# Altium footprint library RUT_xE310_PCB.PcbLib: 42 footprints (part 2 of 3)
Each footprint in its own frame and in the unit in brackets; x right, y up, seen from the top. Pads: shape width x height; smd on the part's side, far side on the other; paste and mask are expansions set on the pad; w line width, h text height; cw(c..) or ccw(c..) is an arc to the next point about the centre after c.
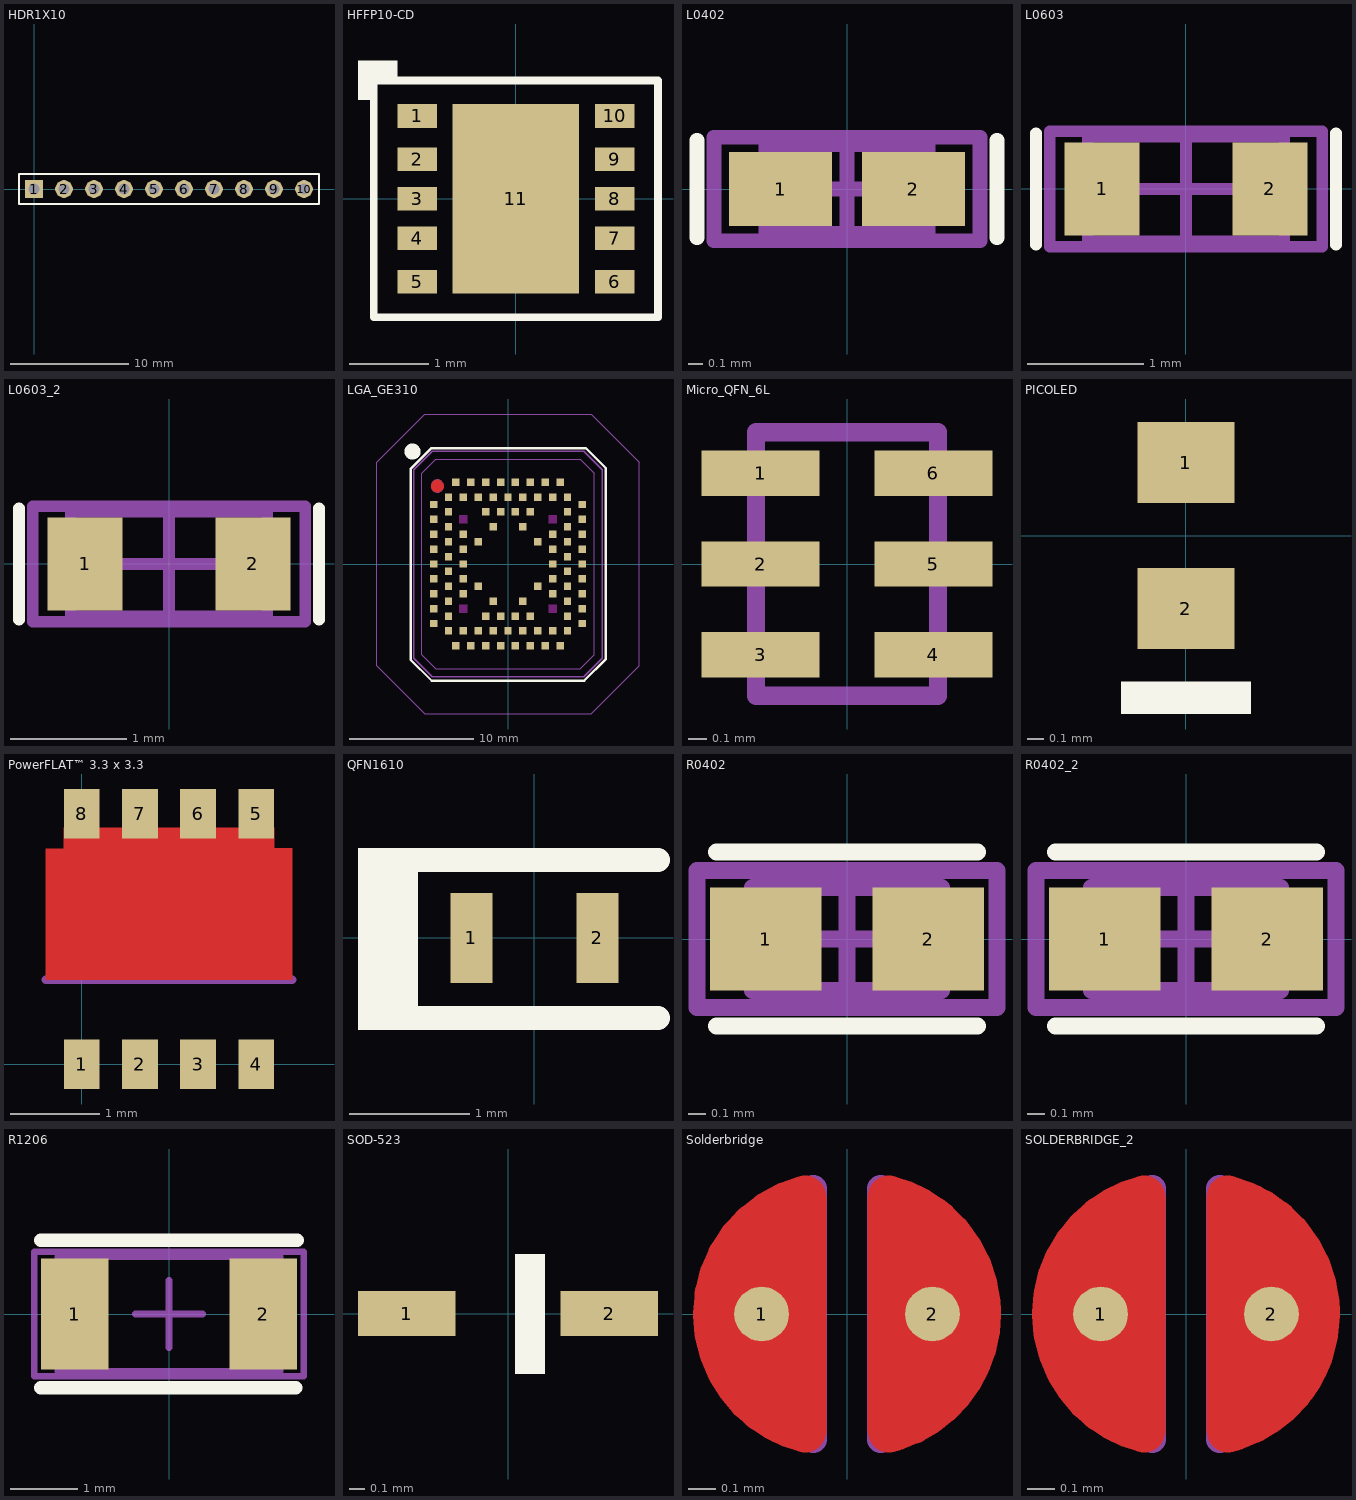
[diagram p1: the footprints below, top view; thin cyan lines are the x and y axes]

## HDR1X10 [mm] "Connector; Header; 10 Position"
pads (10):
  rect 1.5x1.5 hole 0.9: 1(0,0)
  round 1.5 hole 0.9: 2(2.54,0) 3(5.08,0) 4(7.62,0) 5(10.16,0) 6(12.7,0) 7(15.24,0) 8(17.78,0) 9(20.32,0) 10(22.86,0)
Top Overlay:
  lines w0.2: -1.27,-1.27 -1.27,1.27 0.635,1.27 24.13,1.27 24.13,-1.27 -1.27,-1.27
3D body "User Library-SIL_Socket10_.STEP": height 8.5, standoff -10.46, extent -1.27,-1.27 24.13,1.27

## HFFP10-CD [mm] "PACKAGE HFFP10-CD"
height 0.63
pads (11):
  rect 0.5x0.3 smd paste-1 mask+0.05: 1(-1.25,1.05) 2(-1.25,0.5) 3(-1.25,0) 4(-1.25,-0.5) 5(-1.25,-1.05) 6(1.25,-1.05) 7(1.25,-0.5) 8(1.25,0) 9(1.25,0.5) 10(1.25,1.05)
  rect 1.6x2.4 smd paste-1 mask+0.05: 11(0,0)
Top Overlay:
  rectangle: -1.8,1.5 -1.5,1.75
  rectangle: -2,1.25 -1.75,1.75
  lines w0.1: -1.8,-1.5 -1.8,1.5 1.8,1.5 1.8,-1.5 -1.8,-1.5
Top Paste:
  drawing of 18 lines, arcs and shapes, not listed
3D body: height 0.64, standoff 0.63, extent -0.975,0.725 -0.725,0.975
3D body: height 0.63, standoff 0.24, extent -1.2,-1.2 1.2,1.2
3D body: height 0.24, standoff 0, extent -1.25,-1.25 1.25,1.25

## L0402 [mm] "Chip Inductor, 2-Leads, Body 1,0x0,5mm, IPC High Density"
height 0.6
pads (2):
  rect 0.7x0.5 smd: 1(-0.45,0) 2(0.45,0)
Top Overlay:
  lines w0.1: -1.016,-0.33 -1.016,0.33 ; 1.016,-0.33 1.016,0.33
Mechanical 13:
  lines w0.1: -0.55,-0.3 0.55,-0.3 0.55,0.3 -0.55,0.3 -0.55,-0.3
Mechanical 15:
  lines w0.1: -0.3,0 0.3,0 ; 0,-0.3 0,0.3 ; -0.9,-0.35 0.9,-0.35 0.9,0.35 -0.9,0.35 -0.9,-0.35
3D body "inductor_0402.STEP": height 0.25, standoff 0, extent -0.49,-0.25 0.51,0.25

## L0603 [mm] "Chip Inductor, 2-Leads, Body 1,6x0,8mm, IPC High Density"
height 1
pads (2):
  rect 0.65x0.8 smd: 1(-0.725,0) 2(0.725,0)
Top Overlay:
  lines w0.1: -1.295,-0.483 -1.295,0.483 ; 1.295,-0.483 1.295,0.483
Mechanical 13:
  lines w0.1: -0.85,-0.45 -0.85,0.45 0.85,0.45 0.85,-0.45 -0.85,-0.45
Mechanical 15:
  lines w0.1: -0.45,0 0.45,0 ; 0,-0.45 0,0.45 ; -1.175,-0.5 -1.175,0.5 1.175,0.5 1.175,-0.5 -1.175,-0.5
3D body "45630.stp": height 0.78, standoff -0.02, extent -0.8,-0.4 0.8,0.4

## L0603_2 [mm]
pads (2):
  rect 0.65x0.8 smd: 1(-0.725,0) 2(0.725,0)
Top Overlay:
  lines w0.1: -1.295,-0.483 -1.295,0.483 ; 1.295,-0.483 1.295,0.483
Mechanical 13:
  lines w0.1: -0.85,-0.45 0.85,-0.45 0.85,0.45 -0.85,0.45 -0.85,-0.45
Mechanical 15:
  lines w0.1: -0.45,0 0.45,0 ; 0,-0.45 0,0.45 ; -1.175,-0.5 1.175,-0.5 1.175,0.5 -1.175,0.5 -1.175,-0.5
3D body: height 1, standoff 0, extent -0.85,-0.45 0.85,0.45

## LGA_GE310 [mm] "GE310-GNSS LGA 18.20 x 15.20 mm"
height 2.6
pads (94):
  rect 0.6x0.6 smd: A3(-4.2,6.6) A5(-3,6.6) A7(-1.8,6.6) A9(-0.6,6.6) A11(0.6,6.6) A13(1.8,6.6) A15(3,6.6) A17(4.2,6.6) AA3(-4.2,-6.6) AA5(-3,-6.6) AA7(-1.8,-6.6) AA9(-0.6,-6.6) AA11(0.6,-6.6) AA13(1.8,-6.6) AA15(3,-6.6) AA17(4.2,-6.6) B2(-4.8,5.4) B4(-3.6,5.4) B6(-2.4,5.4) B8(-1.2,5.4) B10(0,5.4) B12(1.2,5.4) B14(2.4,5.4) B16(3.6,5.4) B18(4.8,5.4) C1(-6,4.8) C19(6,4.8) D2(-4.8,4.2) D7(-1.8,4.2) D9(-0.6,4.2) D11(0.6,4.2) D13(1.8,4.2) D18(4.8,4.2) E1(-6,3.6) E19(6,3.6) F2(-4.8,3) F8(-1.2,3) F12(1.2,3) F18(4.8,3) G1(-6,2.4) G4(-3.6,2.4) G16(3.6,2.4) G19(6,2.4) H2(-4.8,1.8) H6(-2.4,1.8) H14(2.4,1.8) H18(4.8,1.8) J1(-6,1.2) J4(-3.6,1.2) J16(3.6,1.2) J19(6,1.2) K2(-4.8,0.6) K18(4.8,0.6) L1(-6,0) L4(-3.6,0) L16(3.6,0) L19(6,0) M2(-4.8,-0.6) M18(4.8,-0.6) N1(-6,-1.2) N4(-3.6,-1.2) N16(3.6,-1.2) N19(6,-1.2) P2(-4.8,-1.8) P6(-2.4,-1.8) P14(2.4,-1.8) P18(4.8,-1.8) R1(-6,-2.4) R4(-3.6,-2.4) R16(3.6,-2.4) R19(6,-2.4) T2(-4.8,-3) T8(-1.2,-3) T12(1.2,-3) T18(4.8,-3) U1(-6,-3.6) U19(6,-3.6) V2(-4.8,-4.2) V7(-1.8,-4.2) V9(-0.6,-4.2) V11(0.6,-4.2) V13(1.8,-4.2) V18(4.8,-4.2) W1(-6,-4.8) W19(6,-4.8) Y2(-4.8,-5.4) Y4(-3.6,-5.4) Y6(-2.4,-5.4) Y8(-1.2,-5.4) Y10(0,-5.4) Y12(1.2,-5.4) Y14(2.4,-5.4) Y16(3.6,-5.4) Y18(4.8,-5.4)
Top Layer:
  region: -6.19,6.29 -6.19,6.389 -6.114,6.573 -5.973,6.714 -5.789,6.79 -5.69,6.79 -5.591,6.79 -5.407,6.714 -5.266,6.573 -5.19,6.389 -5.19,6.29 -5.19,6.191 -5.266,6.007 -5.407,5.866 -5.591,5.79 -5.69,5.79 -5.789,5.79 -5.973,5.866 -6.114,6.007 -6.19,6.191
Top Layer keep-out:
  rectangle: -3.95,3.25 -3.25,3.95
  rectangle: 3.25,3.25 3.95,3.95
  rectangle: 3.25,-3.95 3.95,-3.25
  rectangle: -3.95,-3.95 -3.25,-3.25
Top Overlay:
  circle w0.254: c-7.7,9.07 r0.53
  region: -8.139,9.431 -7.94,9.63 -7.46,9.63 -7.17,9.34 -7.17,8.81 -7.43,8.55 -7.97,8.55 -8.23,8.81 -8.23,9.221
  lines w0.2: -7.85,-7.72 -7.85,7.67 -6.17,9.35 6.27,9.35 7.9,7.72 7.9,-7.66 6.14,-9.42 -6.15,-9.42 -7.85,-7.72
Keep-Out Layer:
  region: -6,6.68
Mechanical 1:
  circle w0.01: c-5.69,6.29 r0.5
  lines w0.01: -6.19,6.29 -5.69,6.29 ; -5.69,5.79 -5.69,6.29 ; -5.69,6.79 -5.69,6.29 ; -5.19,6.29 -5.69,6.29
  lines w0.1: -6.95,-7.331 -6.95,7.331 -5.831,8.45 0,8.45 5.831,8.45 6.95,7.331 6.95,-7.331 5.831,-8.45 -5.831,-8.45 -6.95,-7.331
  lines w0.15: -7.6,-7.6 -6.1,-9.1 6.1,-9.1 7.6,-7.6 7.6,7.6 6.1,9.1 -6.1,9.1 -7.6,7.6 -7.6,-7.6
  text "1" at -6.14,7.06 h0.5
  text "A" at -6.73,6.38 h0.5
Mechanical 15:
  lines w0.1: -10.6,-8.221 -6.721,-12.1 6.721,-12.1 10.6,-8.221 10.6,8.221 6.721,12.1 -6.721,12.1 -10.6,8.221 -10.6,-8.221
3D body: height 1.99, standoff 0.61, extent -6.95,-8.45 6.95,8.45
3D body: height 0.6, standoff 0.01, extent -7.6,-9.1 7.6,9.1
3D body: height 2.09, standoff 1.99, extent -6.188,5.791 -5.192,6.789

## Micro_QFN_6L [mm] "1.45x1.00"
height 0.55
pads (6):
  rect 0.65x0.25 smd: 1(-0.475,0.5) 2(-0.475,0) 3(-0.475,-0.5) 4(0.475,-0.5) 5(0.475,0) 6(0.475,0.5)
Mechanical 1:
  lines w0.1: -0.5,-0.725 -0.5,0.725 0.5,0.725 0.5,-0.725 -0.5,-0.725
3D body: height 0.55, standoff 0, extent -0.5,-0.725 0.5,0.725

## PICOLED [mm] "PICOLED  TM  -eco/PICOLED  TM"
height 0.2
pads (2):
  rect 0.6x0.5 smd: 1(0,0.45) 2(0,-0.45)
Top Overlay:
  rectangle: -0.4,-1.1 0.4,-0.9
3D body "User Library-LED_1006_W.STEP": height 0.2, standoff 0, extent -0.3,-0.5 0.3,0.5

## PowerFLAT™ 3.3 x 3.3 [mm]
height 1
pads (8):
  rect 0.4x0.55 smd: 1(0,0) 2(0.65,0) 3(1.3,0) 4(1.95,0) 5(1.95,2.8) 6(1.3,2.8) 7(0.65,2.8) 8(0,2.8)
Top Layer:
  region: 2.35,0.945 -0.4,0.945 -0.4,2.41 -0.2,2.41 -0.2,2.64 2.15,2.64 2.15,2.415 2.35,2.415
Mechanical 1:
  region: 2.35,0.945
  lines w0.1: -0.4,0.945 2.35,0.945
3D body "PowerFLAT.STEP": height 0.8, standoff 0, extent -0.68,-0.245 2.62,3.055

## QFN1610 [mm]
height 0.6
pads (2):
  rect 0.35x0.75 smd: 1(-0.525,0) 2(0.525,0)
Top Overlay:
  rectangle: -1.47,-0.77 -0.97,0.75
  lines w0.2: -1.21,0.65 1.03,0.65 ; -1.05,-0.67 1.03,-0.67
3D body: height 0.6, standoff 0.01, extent -0.8,-0.5 0.8,0.5

## R0402 [mm] "Chip resistor 0402"
height 0.6
pads (2):
  rect 0.65x0.6 smd: 1(-0.475,0) 2(0.475,0)
Top Overlay:
  lines w0.1: -0.762,-0.508 0.762,-0.508 ; -0.762,0.508 0.762,0.508
Mechanical 13:
  lines w0.1: -0.55,-0.3 -0.55,0.3 0.55,0.3 0.55,-0.3 -0.55,-0.3
Mechanical 15:
  lines w0.1: -0.3,0 0.3,0 ; 0,-0.3 0,0.3 ; -0.875,-0.4 -0.875,0.4 0.875,0.4 0.875,-0.4 -0.875,-0.4
3D body "SW3dPS-0402 SMD Resistor.STEP": height 0.2, standoff 0, extent -0.5,-0.3 0.5,0.3

## R0402_2 [mm]
pads (2):
  rect 0.65x0.6 smd: 1(-0.475,0) 2(0.475,0)
Top Overlay:
  lines w0.1: -0.762,-0.508 0.762,-0.508 ; -0.762,0.508 0.762,0.508
Mechanical 13:
  lines w0.1: -0.55,-0.3 -0.55,0.3 0.55,0.3 0.55,-0.3 -0.55,-0.3
Mechanical 15:
  lines w0.1: -0.3,0 0.3,0 ; 0,-0.3 0,0.3 ; -0.875,-0.4 -0.875,0.4 0.875,0.4 0.875,-0.4 -0.875,-0.4
3D body "SW3dPS-0402 SMD Resistor.STEP": height 0.2, standoff 0, extent -0.5,-0.3 0.5,0.3

## R1206 [mm] "Chip Resistor, 2-Leads, Body 3,2x1,6mm, IPC High Density"
height 1
pads (2):
  rect 1x1.65 smd: 1(-1.4,0) 2(1.4,0)
Top Overlay:
  lines w0.2: -1.905,-1.092 1.88,-1.092 ; -1.905,1.092 1.905,1.092
Mechanical 13:
  lines w0.1: -1.65,-0.85 1.65,-0.85 1.65,0.85 -1.65,0.85 -1.65,-0.85
Mechanical 15:
  lines w0.1: -0.5,0 0.5,0 ; 0,-0.5 0,0.5 ; -2,-0.925 2,-0.925 2,0.925 -2,0.925 -2,-0.925
3D body "SW3dPS-1206 SMD Resistor.STEP": height 1, standoff 0, extent -1.625,-0.813 1.575,0.787

## SOD-523 [mm]
pads (2):
  rect 0.65x0.3 smd: 1(-0.675,0) 2(0.675,0)
Top Overlay:
  rectangle: 0.048,-0.401 0.246,0.397
3D body "SOD-523F.step": height 0.7, standoff 0, extent -0.8,-0.399 0.8,0.399

## Solderbridge [mm]
pads (2):
  round 0.2 smd paste-10: 1(-0.312,0) 2(0.312,0)
Top Layer:
  region: 0.077,0.432 0.152,0.505 0.271,0.467 0.335,0.424 0.409,0.351 0.462,0.292 0.521,0.193 0.549,0.099 0.544,-0.122 0.518,-0.193 0.434,-0.33 0.351,-0.411 0.259,-0.469 0.157,-0.5 0.107,-0.483 0.077,-0.43
  region: -0.077,-0.432 -0.152,-0.505 -0.271,-0.467 -0.335,-0.424 -0.409,-0.351 -0.462,-0.292 -0.521,-0.193 -0.549,-0.099 -0.544,0.122 -0.518,0.193 -0.434,0.33 -0.351,0.411 -0.259,0.469 -0.157,0.5 -0.107,0.483 -0.077,0.43
  lines w0.152: -0.153,-0.431 cw(c-0.042,0) -0.312,-0.353 cw(c-0.042,0) -0.398,-0.266 cw(c-0.042,0) -0.487,-0.001 ; -0.153,0.431 ccw(c-0.042,0) -0.487,0 ; 0.153,-0.431 ccw(c0.042,0) 0.182,-0.422 ccw(c0.042,0) 0.421,-0.233 ccw(c0.042,0) 0.487,0 ccw(c0.042,0) 0.485,0.037 ccw(c0.042,0) 0.329,0.34 ccw(c0.042,0) 0.312,0.353 ccw(c0.042,0) 0.153,0.431 ; -0.487,0 ccw(c-0.042,0) -0.487,-0.001
Top Solder:
  circle w0.61: c-0.003,0 r0.279
Mechanical 7:
  lines w0.1: -0.123,-0.459 cw(c-0.042,0) -0.123,0.459 -0.123,-0.459 ; 0.123,-0.459 ccw(c0.042,0) 0.123,0.459 0.123,-0.459

## SOLDERBRIDGE_2 [mm]
pads (2):
  round 0.2 smd paste-10: 1(-0.312,0) 2(0.312,0)
Top Layer:
  region: 0.077,0.432 0.152,0.505 0.271,0.467 0.335,0.424 0.409,0.351 0.462,0.292 0.521,0.193 0.549,0.099 0.544,-0.122 0.518,-0.193 0.434,-0.33 0.351,-0.411 0.259,-0.469 0.157,-0.5 0.107,-0.483 0.077,-0.43
  region: -0.077,-0.432 -0.152,-0.505 -0.271,-0.467 -0.335,-0.424 -0.409,-0.351 -0.462,-0.292 -0.521,-0.193 -0.549,-0.099 -0.544,0.122 -0.518,0.193 -0.434,0.33 -0.351,0.411 -0.259,0.469 -0.157,0.5 -0.107,0.483 -0.077,0.43
  lines w0.152: -0.153,-0.431 cw(c-0.042,0) -0.312,-0.353 cw(c-0.042,0) -0.398,-0.266 cw(c-0.042,0) -0.487,0 cw(c-0.042,0) -0.312,0.353 cw(c-0.042,0) -0.153,0.431 ; 0.153,-0.431 ccw(c0.042,0) 0.182,-0.422 ccw(c0.042,0) 0.386,-0.282 ccw(c0.042,0) 0.421,-0.233 ccw(c0.042,0) 0.461,-0.149 ccw(c0.042,0) 0.487,0 ccw(c0.042,0) 0.485,0.037 ccw(c0.042,0) 0.329,0.34 ccw(c0.042,0) 0.153,0.431
Top Solder:
  circle w0.61: c-0.003,0 r0.279
Mechanical 7:
  lines w0.1: -0.123,-0.459 cw(c-0.042,0) -0.123,0.459 -0.123,-0.459 ; 0.123,-0.459 ccw(c0.042,0) 0.123,0.459 0.123,-0.459